# EAGLE library part TPS2113APW (library SamacSys_Parts)
Texas Instruments TPS2113APW, Power Mux Autoswitching 1.25A 5.5 V max. 8-Pin, TSSOP Source: Datasheet <http://www.ti.com/general/docs/suppproductinfo.tsp?distId=26&gotoUrl=http://www.ti.com/lit/gpn/tps2113a>
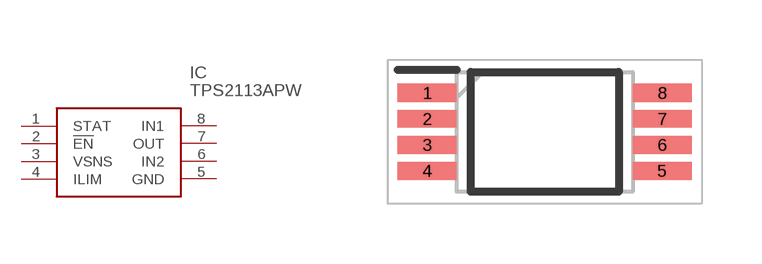
[diagram p155: symbol with the pads of SOP65P640X120-8N; footprint SOP65P640X120-8N]

Designator prefix IC

## TPS2113APW (DESCRIPTION: Texas Instruments TPS2113APW, Power Mux Autoswitching 1.25A 5.5 V max. 8-Pin, TSSOP; HEIGHT: 1.2mm; MANUFACTURER_NAME: Texas Instruments; MANUFACTURER_PART_NUMBER: TPS2113APW; MOUSER_PART_NUMBER: 595-TPS2113APW; MOUSER_PRICE-STOCK: https://www.mouser.co.uk/ProductDetail/Texas-Instruments/TPS2113APW?qs=ojKcPFmCWSUN5VlYBAYL8g%3D%3D)  [SOP65P640X120-8N]
1  STAT
2  !EN
3  VSNS
4  ILIM
5  GND
6  IN2
7  OUT
8  IN1

## Footprint SOP65P640X120-8N (pad centres in mm)
PW0008A
smd 1.475 x 0.45: 1 -2.938,0.975; 2 -2.938,0.325; 3 -2.938,-0.325; 4 -2.938,-0.975; 5 2.938,-0.975; 6 2.938,-0.325; 7 2.938,0.325; 8 2.938,0.975